# Altium integrated library Integrated_Library1.IntLib: 100 symbols
Pins are listed as number, name and electrical type; pins without a type are passive.

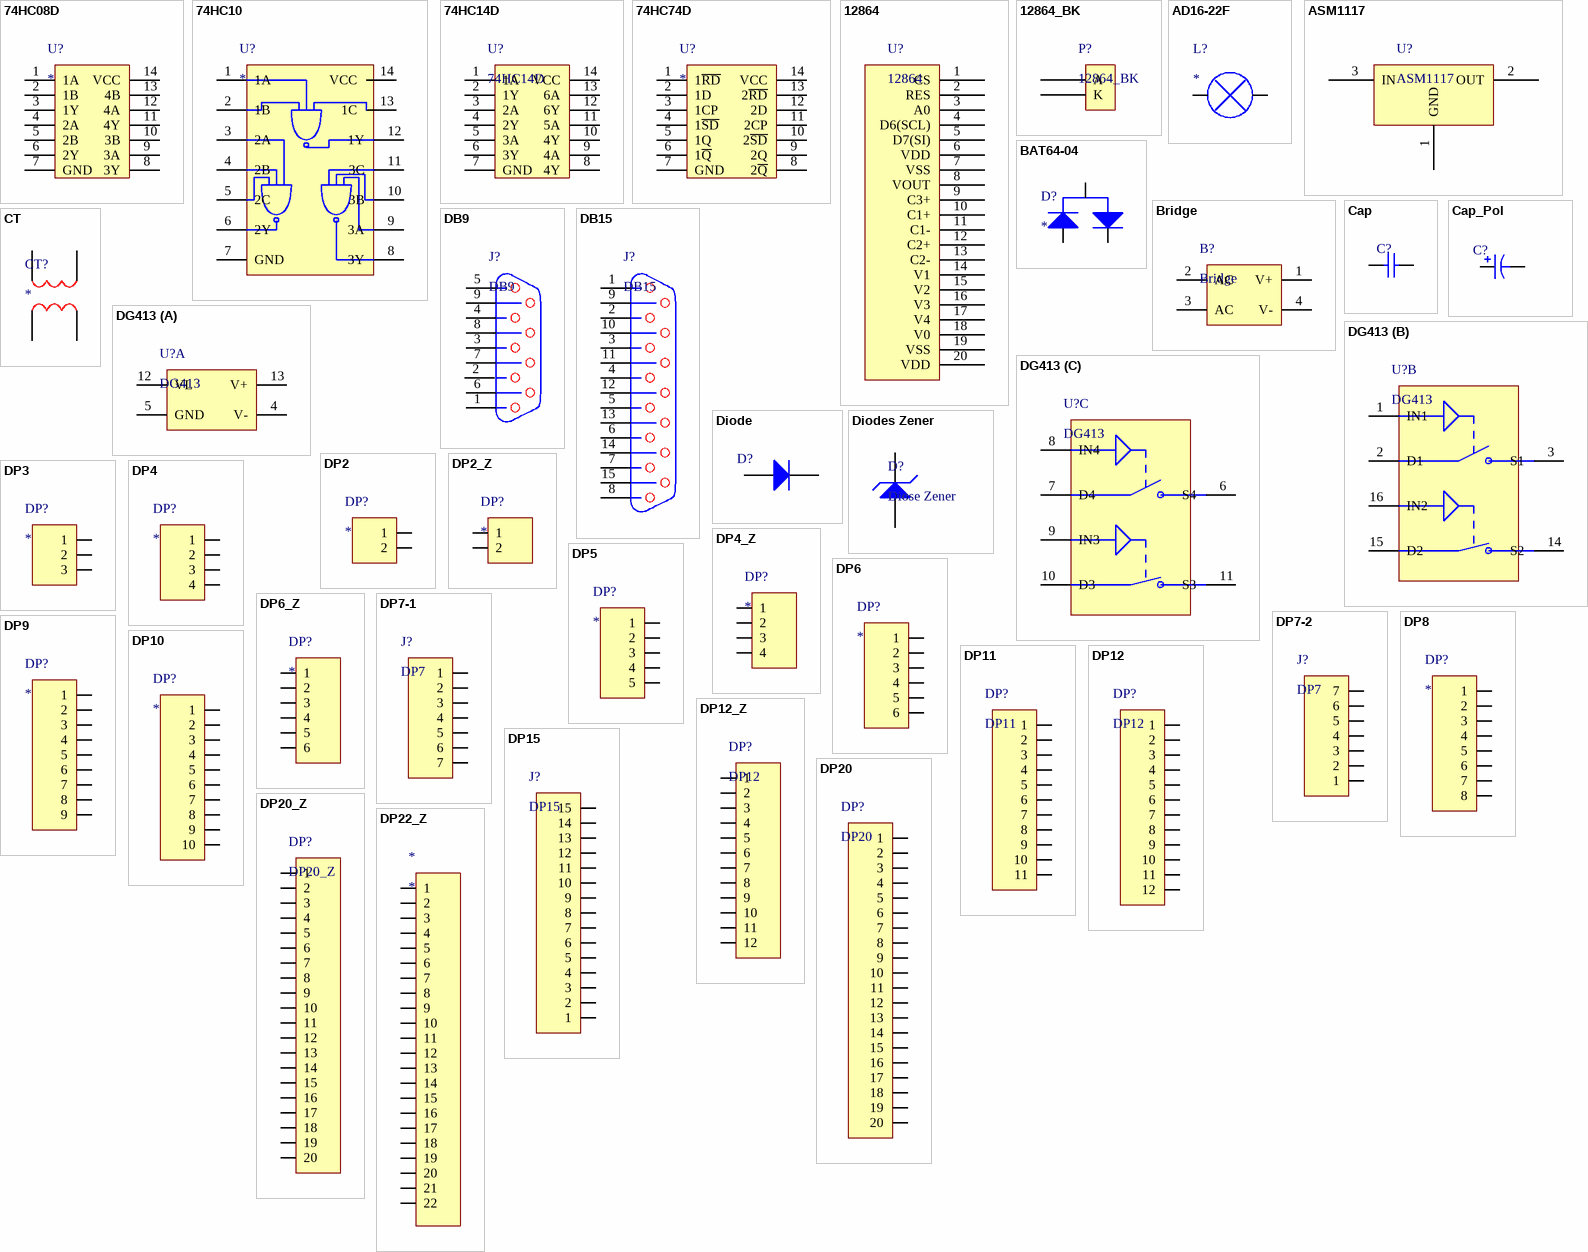
[diagram p0: symbols 74HC08D to DP22_Z]

## 74HC08D
designator U?
pins: 1 1A, 2 1B, 3 1Y, 4 2A, 5 2B, 6 2Y, 7 GND, 8 3Y, 9 3A, 10 3B, 11 4Y, 12 4A, 13 4B, 14 VCC

## 74HC10
designator U?
footprint PDIP_14pin (W7.62mm)
pins: 1 1A, 2 1B, 3 2A, 4 2B, 5 2C, 6 2Y, 7 GND, 8 3Y, 9 3A, 10 3B, 11 3C, 12 1Y, 13 1C, 14 VCC

## 74HC14D
designator U?
footprint SOP65P780-14N (SOP, 14-Leads, Body 6.2x5.3mm, Pitch 0.65mm, IPC Medium Density)
footprint PDIP_14pin (W7.62mm)
pins: 1 1A, 2 1Y, 3 2A, 4 2Y, 5 3A, 6 3Y, 7 GND, 8 4Y, 9 4A, 10 4Y, 11 5A, 12 6Y, 13 6A, 14 VCC

## 74HC74D
designator U?
pins: 1 1~{RD}, 2 1D, 3 1CP, 4 1~{SD}, 5 1Q, 6 1~{Q}, 7 GND, 8 2~{Q}, 9 2Q, 10 2~{SD}, 11 2CP, 12 2D, 13 2~{RD}, 14 VCC

## 12864
designator U?
footprint FPC_0.5mm
pins: 1 CS, 2 RES, 3 A0, 4 D6(SCL), 5 D7(SI), 6 VDD, 7 VSS, 8 VOUT, 9 C3+, 10 C1+, 11 C1-, 12 C2+, 13 C2-, 14 V1, 15 V2, 16 V3, 17 V4, 18 V0, 19 VSS, 20 VDD

## 12864_BK
designator P?
footprint LCD BK
pins: A, K

## AD16-22F
designator L?
pins: 1, 2

## ASM1117
designator U?
footprint SOT223
pins: 1 GND, 2 OUT, 3 IN, 4 hidden

## BAT64-04
designator D?
footprint SOT23_N
pins: 1, 2, 3

## Bridge
designator B?
footprint GBU810
pins: 1 V+, 2 AC, 3 AC, 4 V-

## Cap
designator C?
Value: 100pF
footprint 0603INCH_1608mm
footprint RAD-0.3
footprint RAD-0.1
footprint RAD-0.2
footprint RAD-0.4
pins: 1, 2

## Cap_Pol
designator C?
Value: 100pF
footprint 7343-CAP
footprint RVT 6.3*7.7mm
footprint RVT 6.3*5.4mm
footprint RVT 10*10.5mm
footprint 6032-CAP
footprint AL-CAP 18mm
footprint RB4-5
footprint RB5-10
pins: 1, 2

## CT
designator CT?
pins: 1, 2, 3, 4

## DB9
designator J?
pins: 1, 2, 3, 4, 5, 6, 7, 8, 9

## DB15
designator J?
pins: 1, 2, 3, 4, 5, 6, 7, 8, 9, 10, 11, 12, 13, 14, 15

## DG413
designator U?
footprint SOIC127P600-16M (SOIC, 16-Leads, Body 9.9x3.9mm, Pitch 1.27mm, IPC Low Density)
part A pins: 4 V-, 5 GND, 12 VL, 13 V+
part B pins: 1 IN1, 2 D1, 3 S1, 14 S2, 15 D2, 16 IN2
part C pins: 6 S4, 7 D4, 8 IN4, 9 IN3, 10 D3, 11 S3

## Diode
designator D?
footprint 1608(0603)- DI
footprint DO-214AC(SMA)
footprint DO-214AA(SMB)
footprint SOD123 (SOD-123; 2 Leads; Body 2.7 x 1.6 mm, (LxW))
footprint DO-35
footprint DO-41
pins: 1 A, 2 K

## Diodes Zener
designator D?, comment Diose Zener
footprint DO-214AC(SMA)
footprint DO-35
footprint DO-41
pins: 1 A, 2 K

## DP2
designator DP?
footprint Pin2_2.54mm
footprint XH2_2.5mm (W5.9mm)
pins: 1, 2

## DP2_Z
designator DP?
footprint XH2_2.5mm (W5.9mm)
footprint Pin2_2.54mm
pins: 1, 2

## DP3
designator DP?
footprint Pin3_2.54mm
footprint XH3_2.5mm (W5.9mm)
pins: 1, 2, 3

## DP4
designator DP?
footprint Pin4_2.54mm
footprint XH4_2.5mm (W5.9mm)
pins: 1, 2, 3, 4

## DP4_Z
designator DP?
pins: 1, 2, 3, 4

## DP5
designator DP?
footprint XH5-2.5mm
footprint Pin5_2.54mm
pins: 1, 2, 3, 4, 5

## DP6
designator DP?
footprint Pin6_2.54mm
footprint XH6_2.5mm (W5.9mm)
footprint KF301-6P_5mm (W7.7)
pins: 1, 2, 3, 4, 5, 6

## DP6_Z
designator DP?
pins: 1, 2, 3, 4, 5, 6

## DP7-1
designator J?, comment DP7
footprint Pin7_2.54mm
footprint XH7_2.5mm
pins: 1, 2, 3, 4, 5, 6, 7

## DP7-2
designator J?, comment DP7
footprint XH7_2.5mm
footprint Pin7_2.54mm
pins: 1, 2, 3, 4, 5, 6, 7

## DP8
designator DP?
footprint XH8_2.5mm (W5.9mm)
footprint Pin8_2.54mm
pins: 1, 2, 3, 4, 5, 6, 7, 8

## DP9
designator DP?
footprint XH9_2.5mm (W5.9mm)
footprint Pin9_2.54mm
pins: 1, 2, 3, 4, 5, 6, 7, 8, 9

## DP10
designator DP?
footprint Pin10_2.54mm
footprint XH10_2.5mm (W5.9mm)
pins: 1, 2, 3, 4, 5, 6, 7, 8, 9, 10

## DP11
designator DP?
pins: 1, 2, 3, 4, 5, 6, 7, 8, 9, 10, 11

## DP12
designator DP?
pins: 1, 2, 3, 4, 5, 6, 7, 8, 9, 10, 11, 12

## DP12_Z
designator DP?, comment DP12
footprint Pin6*2_2.54mm NJ
footprint XH12_2.5mm
pins: 1, 2, 3, 4, 5, 6, 7, 8, 9, 10, 11, 12

## DP15
designator J?
pins: 1, 2, 3, 4, 5, 6, 7, 8, 9, 10, 11, 12, 13, 14, 15

## DP20
designator DP?
footprint Pin10*2_2.54mm NJ
pins: 1, 2, 3, 4, 5, 6, 7, 8, 9, 10, 11, 12, 13, 14, 15, 16, 17, 18, 19, 20

## DP20_Z
designator DP?
footprint Pin10*2_2.54mm NJ
pins: 1, 2, 3, 4, 5, 6, 7, 8, 9, 10, 11, 12, 13, 14, 15, 16, 17, 18, 19, 20

## DP22_Z
designator *
footprint Pin11*2_2.54mm NJ
pins: 1, 2, 3, 4, 5, 6, 7, 8, 9, 10, 11, 12, 13, 14, 15, 16, 17, 18, 19, 20, 21, 22

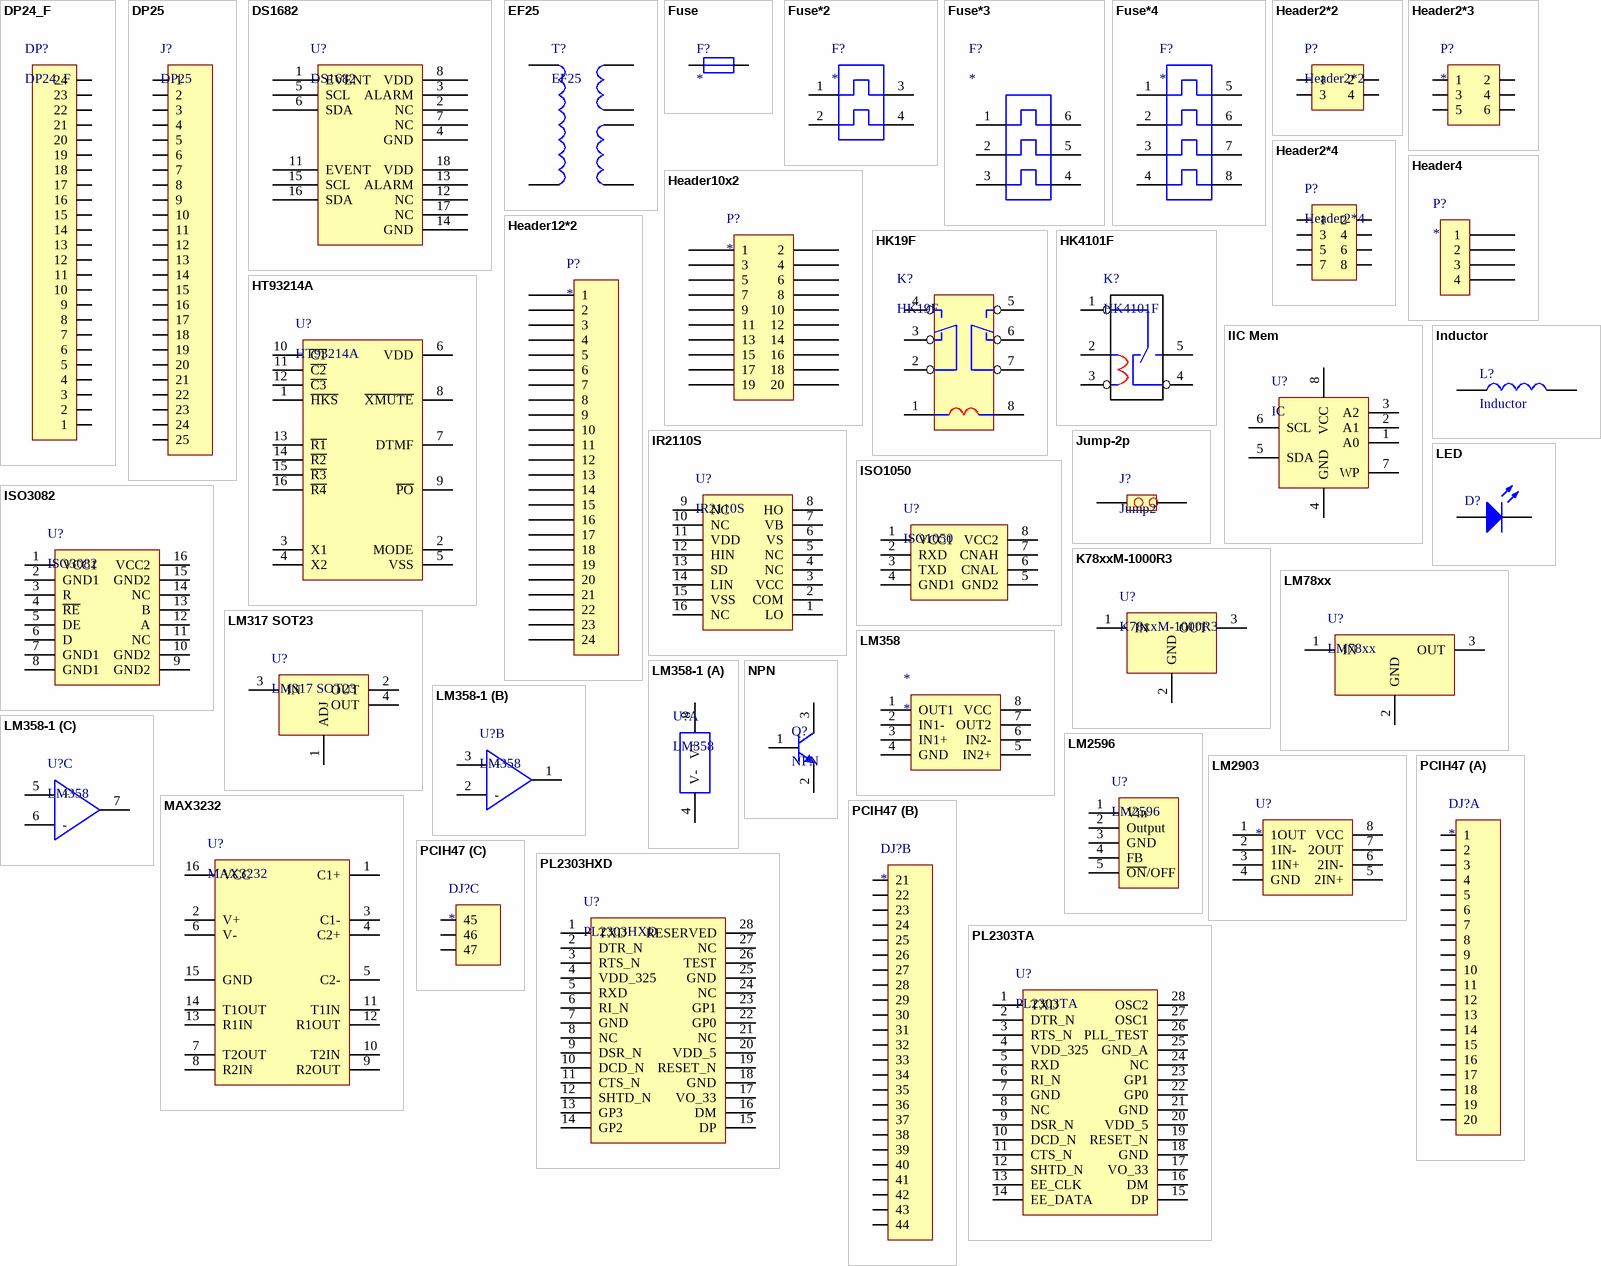
[diagram p1: symbols DP24_F to PL2303TA]

## DP24_F
designator DP?
footprint Pin12x2_2.54mm NJ (W8.8mm)
pins: 1, 2, 3, 4, 5, 6, 7, 8, 9, 10, 11, 12, 13, 14, 15, 16, 17, 18, 19, 20, 21, 22, 23, 24

## DP25
designator J?
pins: 1, 2, 3, 4, 5, 6, 7, 8, 9, 10, 11, 12, 13, 14, 15, 16, 17, 18, 19, 20, 21, 22, 23, 24, 25

## DS1682
designator U?
footprint DS1682
pins: 1 EVENT, 2  NC, 3 ALARM, 4 GND, 5 SCL, 6 SDA, 7 NC, 8 VDD, 11 EVENT, 12  NC, 13 ALARM, 14 GND, 15 SCL, 16 SDA, 17 NC, 18 VDD

## EF25
designator T?
pins: 1, 2, 3, 4, 5, 6

## Fuse
designator F?
footprint Fuse
footprint 0805inch_2012mm_
pins: 1, 2

## Fuse*2
designator F?
pins: 1, 2, 3, 4

## Fuse*3
designator F?
pins: 1, 2, 3, 4, 5, 6

## Fuse*4
designator F?
pins: 1, 2, 3, 4, 5, 6, 7, 8

## Header2*2
designator P?
footprint Pin2*2_2.54mm
pins: 1, 2, 3, 4

## Header2*3
designator P?
footprint Pin3*2_2.54mm
pins: 1, 2, 3, 4, 5, 6

## Header2*4
designator P?
footprint Pin4*2_2.54mm
pins: 1, 2, 3, 4, 5, 6, 7, 8

## Header4
designator P?
footprint Pin4_2.54mm s
pins: 1, 2, 3, 4

## Header10x2
designator P?
footprint PIN10x2_2.54mm
pins: 1, 2, 3, 4, 5, 6, 7, 8, 9, 10, 11, 12, 13, 14, 15, 16, 17, 18, 19, 20

## Header12*2
designator P?
footprint Pin12*2_2.54mm
footprint Pin12x2_2.54mm NJ (W8.8mm)
pins: 1, 2, 3, 4, 5, 6, 7, 8, 9, 10, 11, 12, 13, 14, 15, 16, 17, 18, 19, 20, 21, 22, 23, 24

## HK19F
designator K?
pins: 1, 2, 3, 4, 5, 6, 7, 8

## HK4101F
designator K?
footprint HK4101F
pins: 1, 2, 3, 4, 5

## HT93214A
designator U?
footprint DIP16-300mil
pins: 1 ~{HKS}, 2 MODE, 3 X1, 4 X2, 5 VSS, 6 VDD, 7 DTMF, 8 ~{XMUTE}, 9 ~{PO}, 10 ~{C1}, 11 ~{C2}, 12 ~{C3}, 13 ~{R1}, 14 ~{R2}, 15 ~{R3}, 16 ~{R4}

## IIC Mem
designator U?, comment IC
footprint SOIC127P600-8M (SOIC, 8-Leads, Body 4.9x3.9mm, Pitch 1.27mm, IPC Low Density)
pins: 1 A0, 2 A1, 3 A2, 4 GND, 5 SDA, 6 SCL, 7 WP, 8 VCC (power)

## Inductor
designator L?
footprint 3216 Chip (Chip Inductor; Body 3.2 x 1.6 mm (LxW typ))
pins: 1 (power), 2 (power)

## IR2110S
designator U?
pins: 1 LO, 2 COM, 3 VCC, 4 NC, 5 NC, 6 VS, 7 VB, 8 HO, 9 NC, 10 NC, 11 VDD, 12 HIN, 13 SD, 14 LIN, 15 VSS, 16 NC

## ISO1050
designator U?
footprint SOP254P1030-8N (SOP, 8-Leads, Body 9.5x6.4mm, Pitch 2.54mm, IPC Medium Density)
footprint SOP8_2.54mm
pins: 1 VCC1, 2 RXD, 3 TXD, 4 GND1, 5 GND2, 6 CNAL, 7 CNAH, 8 VCC2

## ISO3082
designator U?
footprint SOIC127P1030-16AM (SOIC, 16-Leads, Body 10.3x7.5mm, Pitch 1.27mm, IPC Low Density)
pins: 1 VCC1, 2 GND1, 3 R, 4 ~{RE}, 5 DE, 6 D, 7 GND1, 8 GND1, 9 GND2, 10 GND2, 11 NC, 12 A, 13 B, 14 NC, 15 GND2, 16 VCC2

## Jump-2p
designator J?, comment Jump2
footprint Pin2_2.54mm
pins: 1, 2

## K78xxM-1000R3
designator U?
footprint K78xxM
pins: 1 IN, 2 GND, 3 OUT

## LED
designator D?
footprint LED 0805
pins: A 1, K 2

## LM78xx
designator U?
footprint SOT223
footprint DDPAK/TO263
pins: 1 IN, 2 GND, 3 OUT

## LM317 SOT23
designator U?
footprint SOT223
pins: 1 ADJ, 2 OUT, 3 IN, 4 OUT

## LM358
designator *
pins: 1 OUT1, 2 IN1-, 3 IN1+, 4 GND, 5 IN2+, 6 IN2-, 7 OUT2, 8 VCC

## LM358-1
designator U?, comment LM358
footprint SOIC127P600-8CM (SOIC, 8-Leads, Body 4.9x3.9mm, Pitch 1.27mm, IPC Low Density)
footprint P008 (DIP; 8 Leads; Row Spacing 7.62 mm; Pitch 2.54 mm)
part A pins: 4 V-, 8 V+
part B pins: 1 OUT1, 2 -, 3 +
part C pins: 5 +, 6 -, 7 OUT2

## LM2596
designator U?
pins: 1 Vin, 2 Output, 3 GND, 4 FB, 5 ~{ON}/OFF

## LM2903
designator U?
pins: 1 1OUT, 2 1IN-, 3 1IN+, 4 GND, 5 2IN+, 6 2IN-, 7 2OUT, 8 VCC

## MAX3232
designator U?
footprint SOIC127P602-16AM (SOIC, 16-Leads, Body 9.9x3.9mm, Pitch 1.27mm, IPC Low Density)
pins: 1 C1+, 2 V+, 3 C1-, 4 C2+, 5 C2-, 6 V-, 7 T2OUT, 8 R2IN, 9 R2OUT, 10 T2IN, 11 T1IN, 12 R1OUT, 13 R1IN, 14 T1OUT, 15 GND, 16 VCC

## NPN
designator Q?
footprint SOT23_N
footprint TO92
pins: 1 B/G, 2 E/S, 3 C/D

## PCIH47
designator DJ?
footprint PCIH47M
part A pins: 1, 2, 3, 4, 5, 6, 7, 8, 9, 10, 11, 12, 13, 14, 15, 16, 17, 18, 19, 20
part B pins: 21, 22, 23, 24, 25, 26, 27, 28, 29, 30, 31, 32, 33, 34, 35, 36, 37, 38, 39, 40, 41, 42, 43, 44
part C pins: 45, 46, 47

## PL2303HXD
designator U?
footprint SOP65P780-28BN (SOP, 28-Leads, Body 10.2x5.3mm, Pitch 0.65mm, IPC Medium Density)
pins: 1 TXD, 2 DTR_N, 3 RTS_N, 4 VDD_325, 5 RXD, 6 RI_N, 7 GND, 8 NC, 9 DSR_N, 10 DCD_N, 11 CTS_N, 12 SHTD_N, 13 GP3, 14 GP2, 15 DP, 16 DM, 17 VO_33, 18 GND, 19 RESET_N, 20 VDD_5, 21 NC, 22 GP0, 23 GP1, 24 NC, 25 GND, 26 TEST, 27 NC, 28 RESERVED

## PL2303TA
designator U?
footprint SOP65P780-28BN (SOP, 28-Leads, Body 10.2x5.3mm, Pitch 0.65mm, IPC Medium Density)
pins: 1 TXD, 2 DTR_N, 3 RTS_N, 4 VDD_325, 5 RXD, 6 RI_N, 7 GND, 8 NC, 9 DSR_N, 10 DCD_N, 11 CTS_N, 12 SHTD_N, 13 EE_CLK, 14 EE_DATA, 15 DP, 16 DM, 17 VO_33, 18 GND, 19 RESET_N, 20 VDD_5, 21 GND, 22 GP0, 23 GP1, 24 NC, 25 GND_A, 26 PLL_TEST, 27 OSC1, 28 OSC2

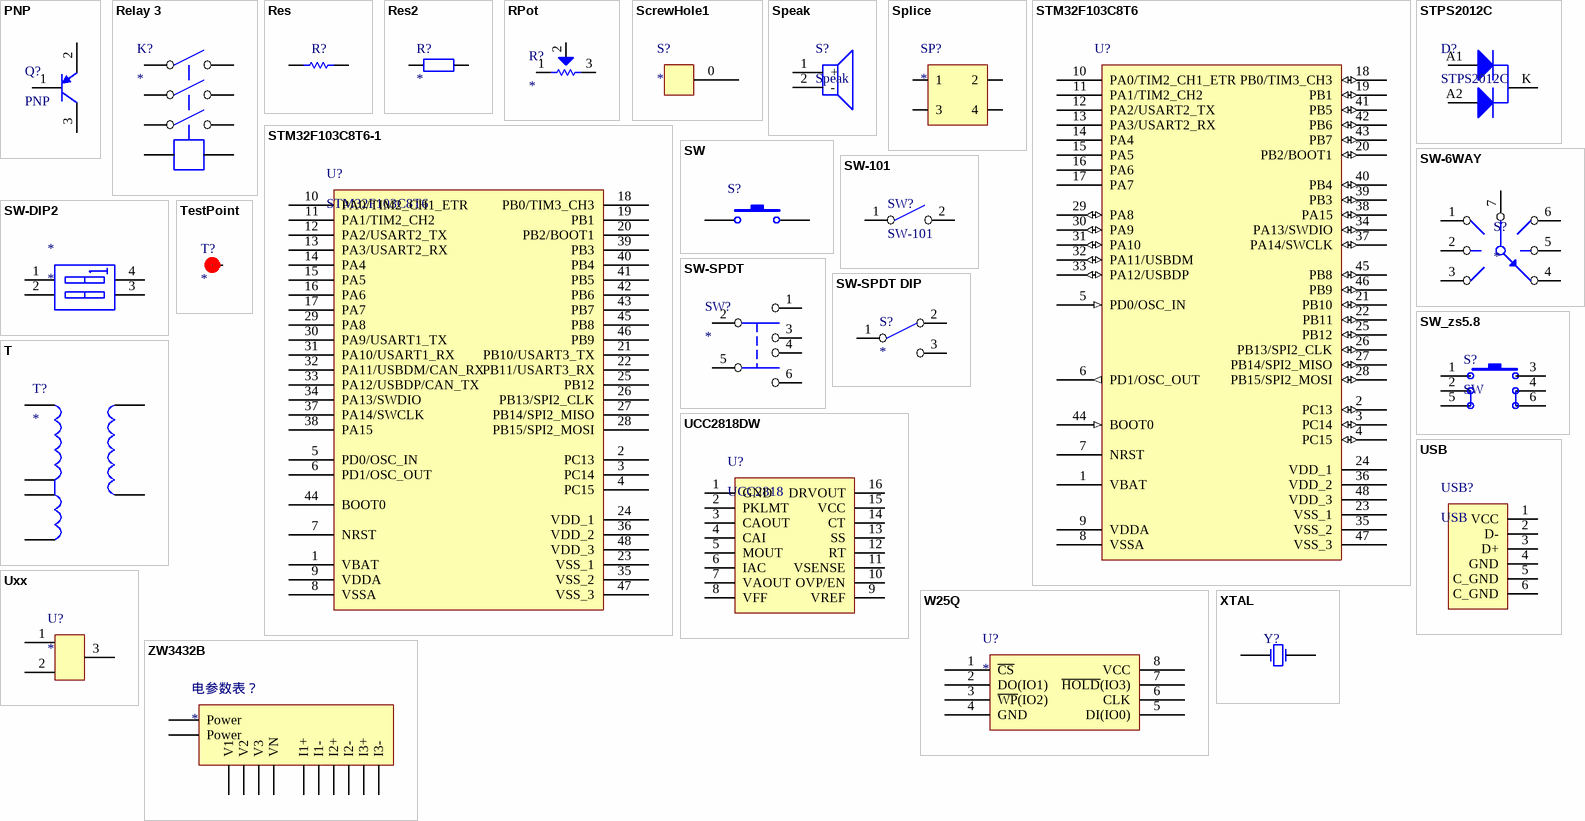
[diagram p2: symbols PNP to ZW3432B]

## PNP
designator Q?
footprint SOT23_N
footprint TO92
pins: 1 B, 2 E, 3 C

## Relay 3
designator K?
pins: 1, 2, 3, 4, 5, 6, 7, 8

## Res
designator R?
Value: 1K
footprint 0603INCH_1608mm
footprint 0805inch_2012mm_
footprint 1206inch_3216mm
footprint 1812inch_4532mm
footprint 1210inch_3225mm
footprint Axial-0.4 1/4W
footprint Axial-0.5 1/2W
footprint Axial-0.6 1W
pins: 1, 2

## Res2
designator R?
footprint KF301-2P_5mm (W7.7mm)
pins: 1, 2

## RPot
designator R?
footprint 3296W
pins: 1, 2, 3

## ScrewHole1
designator S?
footprint Hole_4mm
pins: 0

## Speak
designator S?
footprint CY-1707
footprint Pin2_2.54mm
pins: 1 +, 2 -

## Splice
designator SP?
footprint SP4
pins: 1, 2, 3, 4

## STM32F103C8T6
designator U?
footprint LQFP48_7x7mm
pins: 1 VBAT, 2 PC13 (io), 3 PC14 (io), 4 PC15 (io), 5 PD0/OSC_IN (in), 6 PD1/OSC_OUT (out), 7 NRST, 8 VSSA, 9 VDDA, 10 PA0/TIM2_CH1_ETR, 11 PA1/TIM2_CH2, 12 PA2/USART2_TX, 13 PA3/USART2_RX, 14 PA4, 15 PA5, 16 PA6, 17 PA7, 18 PB0/TIM3_CH3 (io), 19 PB1 (io), 20 PB2/BOOT1 (io), 21 PB10 (io), 22 PB11 (io), 23 VSS_1, 24 VDD_1, 25 PB12 (io), 26 PB13/SPI2_CLK (io), 27 PB14/SPI2_MISO (io), 28 PB15/SPI2_MOSI (io), 29 PA8 (io), 30 PA9 (io), 31 PA10 (io), 32 PA11/USBDM (io), 33 PA12/USBDP (io), 34 PA13/SWDIO (io), 35 VSS_2, 36 VDD_2, 37 PA14/SWCLK (io), 38 PA15 (io), 39 PB3 (io), 40 PB4 (io), 41 PB5 (io), 42 PB6 (io), 43 PB7 (io), 44 BOOT0 (in), 45 PB8 (io), 46 PB9 (io), 47 VSS_3, 48 VDD_3

## STM32F103C8T6-1
designator U?, comment STM32F103C8T6
footprint LQFP48_7x7mm
pins: 1 VBAT, 2 PC13, 3 PC14, 4 PC15, 5 PD0/OSC_IN, 6 PD1/OSC_OUT, 7 NRST, 8 VSSA, 9 VDDA, 10 PA0/TIM2_CH1_ETR, 11 PA1/TIM2_CH2, 12 PA2/USART2_TX, 13 PA3/USART2_RX, 14 PA4, 15 PA5, 16 PA6, 17 PA7, 18 PB0/TIM3_CH3, 19 PB1, 20 PB2/BOOT1, 21 PB10/USART3_TX, 22 PB11/USART3_RX, 23 VSS_1, 24 VDD_1, 25 PB12, 26 PB13/SPI2_CLK, 27 PB14/SPI2_MISO, 28 PB15/SPI2_MOSI, 29 PA8, 30 PA9/USART1_TX, 31 PA10/USART1_RX, 32 PA11/USBDM/CAN_RX, 33 PA12/USBDP/CAN_TX, 34 PA13/SWDIO, 35 VSS_2, 36 VDD_2, 37 PA14/SWCLK, 38 PA15, 39 PB3, 40 PB4, 41 PB5, 42 PB6, 43 PB7, 44 BOOT0, 45 PB8, 46 PB9, 47 VSS_3, 48 VDD_3

## STPS2012C
designator D?
pins: A1, A2, K

## SW
designator S?
footprint AN66
footprint Pin2_2.54mm
footprint Key3*6*2.5mm
pins: 1, 2

## SW-6WAY
designator S?
footprint Pin7_2.54mm
pins: 1, 2, 3, 4, 5, 6, 7

## SW-101
designator SW?
footprint Pin2_2.54mm
pins: 1 COMMON, 2 NC

## SW-DIP2
designator *
pins: 1 A1, 2 A2, 3 B2, 4 B1

## SW-SPDT
designator SW?
footprint Pin3*2_2.54mm
pins: 1 ON, 2 COMMON, 3 ON, 4 ON, 5 COMMON, 6 ON

## SW-SPDT DIP
designator S?
footprint Pin3_2.54mm
pins: 1 COMMON, 2 NC, 3 NO

## SW_zs5.8
designator S?, comment SW
footprint SW_zs (body 5.8mm*5.8mm; LEN 10mm)
pins: 1, 2, 3, 4, 5, 6

## T
designator T?
pins: 1, 2, 3, 4, 5, 6

## TestPoint
designator T?
footprint TestPad
footprint TestPad2
pins: 0

## UCC2818DW
designator U?, comment UCC2818
pins: 1 GND, 2 PKLMT, 3 CAOUT, 4 CAI, 5 MOUT, 6 IAC, 7 VAOUT, 8 VFF, 9 VREF, 10 OVP/EN, 11 VSENSE, 12 RT, 13 SS, 14 CT, 15 VCC, 16 DRVOUT

## USB
designator USB?
footprint USB2.5-2H4D (Connector; USB1.1, Type B, Thru-Hole; 4 Position; Right Angle)
pins: 1 VCC, 2 D-, 3 D+, 4 GND, 5 C_GND, 6 C_GND

## Uxx
designator U?
pins: 1, 2, 3

## W25Q
designator U?
footprint SOIC/VSOP-208mil
pins: 1 ~{CS}, 2 DO(IO1), 3 ~{WP}(IO2), 4 GND, 5 DI(IO0), 6 CLK, 7 ~{HOLD}(IO3), 8 VCC

## XTAL
designator Y?
footprint XTAL
footprint HC-49S
pins: 1 OSC1, 2 OSC2

## ZW3432B
designator 电参数表？
pins: 1 Power, 2 Power, 3 V1, 4 V2, 5 V3, 6 VN, 7 I1+, 8 I1-, 9 I2-, 10 I2+, 11 I3+, 12 I3-